# EAGLE library part USB4+4P (library Connector-new)
320010017 USB-A-FEMALE
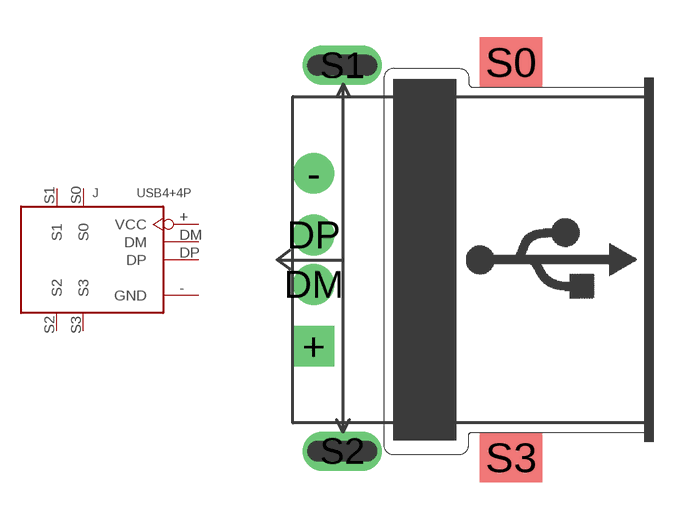
[diagram p1: symbol with the pads of USB4+4-90D-IN; footprint USB4+4-90D-IN]

Designator prefix J

## USB4+4P-13.2X14.5  [USB4+4-90D-IN]
+  VCC
-  GND
DM  DM
DP  DP
S0  S0
S1  S1
S2  S2
S3  S3

## Footprint USB4+4-90D-IN (pad centres in mm)
drill 0.813 pad 1.651 square: + 0.85,-3.5
drill 0.813 pad 1.651: - 0.85,3.5; DM 0.85,-1; DP 0.85,1
smd 2.54 x 2.032: S0 8.83,8.001; S3 8.83,-8.001
drill 0.7 pad 1.6 long: S1 2,7.874; S2 2,-7.747